# Altium schematic symbol library SeniorProject.SchLib: 22 symbols
Pins are listed as number, name and electrical type; pins without a type are passive.

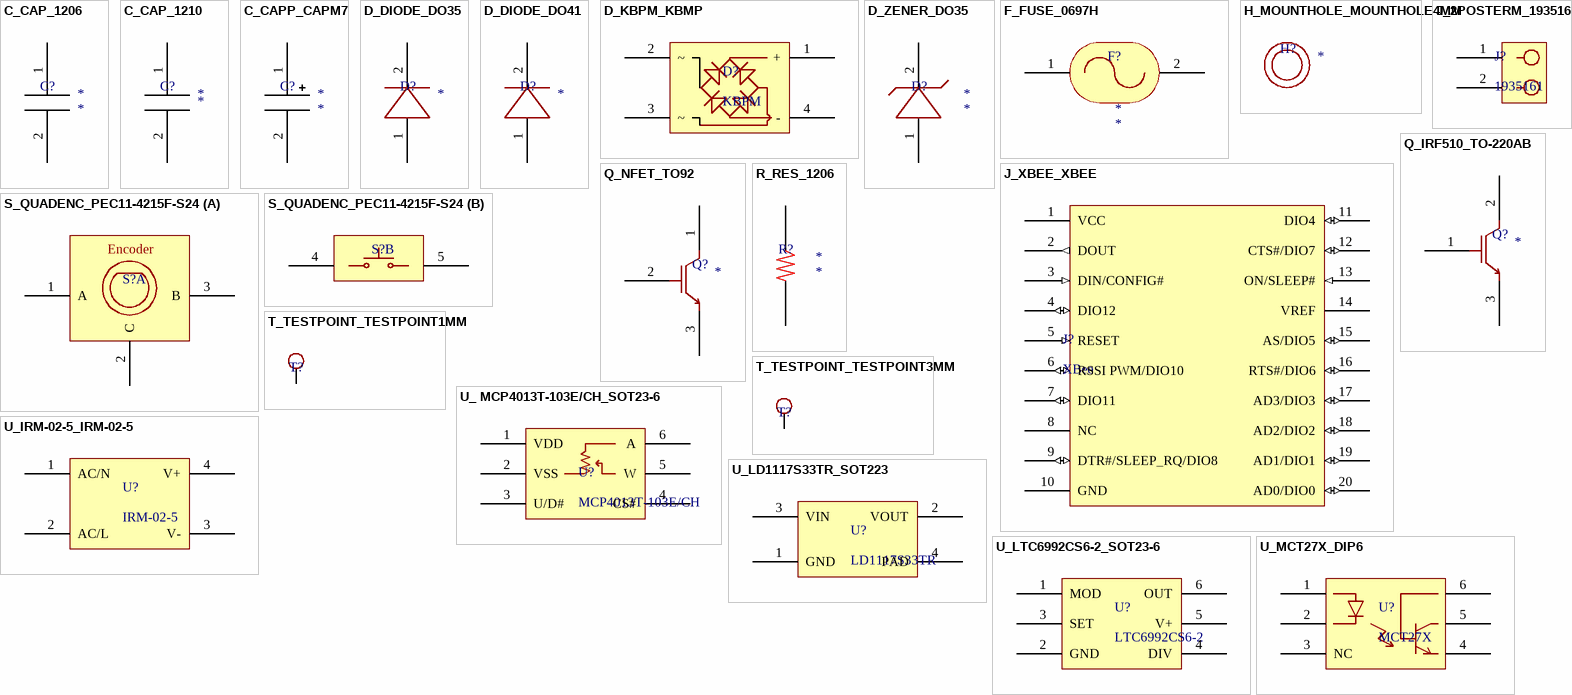
[diagram p0: symbols C_CAP_1206 to U_MCT27X_DIP6]

## C_CAP_1206
designator C?, comment CAP  (value not drawn)
Value: *; Rating: *
footprint 1206
pins: 1, 2

## C_CAP_1210
designator C?, comment CAP  (value not drawn)
Value: *; Rating: *
footprint 1210
pins: 1, 2

## C_CAPP_CAPM7
designator C?, comment CAP  (value not drawn)
Value: *; Rating: *
footprint CAPM7
pins: 1, 2

## D_DIODE_DO35
designator D?
Rating: *
footprint DO35
pins: 1, 2

## D_DIODE_DO41
designator D?, comment DIODE  (value not drawn)
Rating: *
footprint DO41
pins: 1, 2

## D_KBPM_KBMP
designator D?, comment KBPM
footprint KBPM
pins: 1 +, 2 ~ (power), 3 ~, 4 -

## D_ZENER_DO35
designator D?, comment ZENER  (value not drawn)
Value: *; Rating: *
footprint DO35
pins: 1, 2

## F_FUSE_0697H
designator F?
Rating: *; Value: *
footprint 0697H
pins: 1, 2

## H_MOUNTHOLE_MOUNTHOLE4MM
designator H?
Value: *
footprint MOUNTHOLE4MM

## J_2POSTERM_1935161
designator J?, comment 1935161
footprint 1935161
pins: 1, 2

## J_XBEE_XBEE
designator J?, comment XBee
footprint XBEE
pins: 1 VCC (power), 2 DOUT (out), 3 DIN/CONFIG# (in), 4 DIO12 (io), 5 RESET (in), 6 RSSI PWM/DIO10 (io), 7 DIO11 (io), 8 NC, 9 DTR#/SLEEP_RQ/DIO8 (io), 10 GND (power), 11 DIO4 (io), 12 CTS#/DIO7 (io), 13 ON/SLEEP# (in), 14 VREF (power), 15 AS/DIO5 (io), 16 RTS#/DIO6 (io), 17 AD3/DIO3 (io), 18 AD2/DIO2 (io), 19 AD1/DIO1 (io), 20 AD0/DIO0 (io)

## Q_IRF510_TO-220AB
designator Q?
Rating: *
footprint TO-220AB
pins: 1 G, 2 D, 3 S

## Q_NFET_TO92
designator Q?
Rating: *
footprint TO92
pins: 1 D, 2 G, 3 S

## R_RES_1206
designator R?
Value: *; Rating: *
footprint 1206
pins: 1, 2

## S_QUADENC_PEC11-4215F-S24
designator S?  (value not drawn)
part A pins: 1 A, 2 C, 3 B
part B pins: 4, 5
part A text: Encoder

## T_TESTPOINT_TESTPOINT1MM
designator T?, comment TESTPOINT  (value not drawn)
footprint TESTPOINT1MM
pins: 1

## T_TESTPOINT_TESTPOINT3MM
designator T?, comment TESTPOINT  (value not drawn)
footprint TESTPOINT3MM
pins: 1

## U_ MCP4013T-103E/CH_SOT23-6
designator U?, comment MCP4013T-103E/CH
footprint SOT23-6
pins: 1 VDD (power), 2 VSS, 3 U/D#, 4 CS#, 5 W, 6 A

## U_IRM-02-5_IRM-02-5
designator U?, comment IRM-02-5
footprint IRM-02-5
pins: 1 AC/N (power), 2 AC/L, 3 V-, 4 V+

## U_LD1117S33TR_SOT223
designator U?, comment LD1117S33TR
footprint SOT223
pins: 1 GND, 2 VOUT, 3 VIN (power), 4 PAD

## U_LTC6992CS6-2_SOT23-6
designator U?, comment LTC6992CS6-2
footprint SOT23-6
pins: 1 MOD, 2 GND, 3 SET, 4 DIV, 5 V+, 6 OUT

## U_MCT27X_DIP6
designator U?, comment MCT27X
footprint DIP6
pins: 1, 2, 3 NC, 4, 5, 6